# EAGLE library part TSW-S-08_S (library con-samtec-tsw)
HEADER
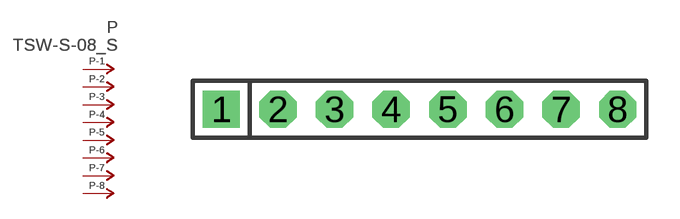
[diagram p47: symbol with the pads of TSW-S-08; footprint TSW-S-08]

Designator prefix P; gates -1=P-NV -2=P-N -3=P-N -4=P-N -5=P-N -6=P-N -7=P-N -8=P-N

## TSW-S-08_S  [TSW-S-08]
1  -1:P  pas
2  -2:P  pas
3  -3:P  pas
4  -4:P  pas
5  -5:P  pas
6  -6:P  pas
7  -7:P  pas
8  -8:P  pas

## Footprint TSW-S-08 (pad centres in mm)
HEADER
drill 0.914 pad 1.676 square: 1 -8.89,0
drill 0.914 pad 1.676 octagon: 2 -6.35,0; 3 -3.81,0; 4 -1.27,0; 5 1.27,0; 6 3.81,0; 7 6.35,0; 8 8.89,0